# Altium footprint library PcbLib1.PcbLib: 15 footprints
Each footprint in its own frame and in the unit in brackets; x right, y up, seen from the top. Pads: shape width x height; smd on the part's side, far side on the other; paste and mask are expansions set on the pad; w line width, h text height; cw(c..) or ccw(c..) is an arc to the next point about the centre after c.
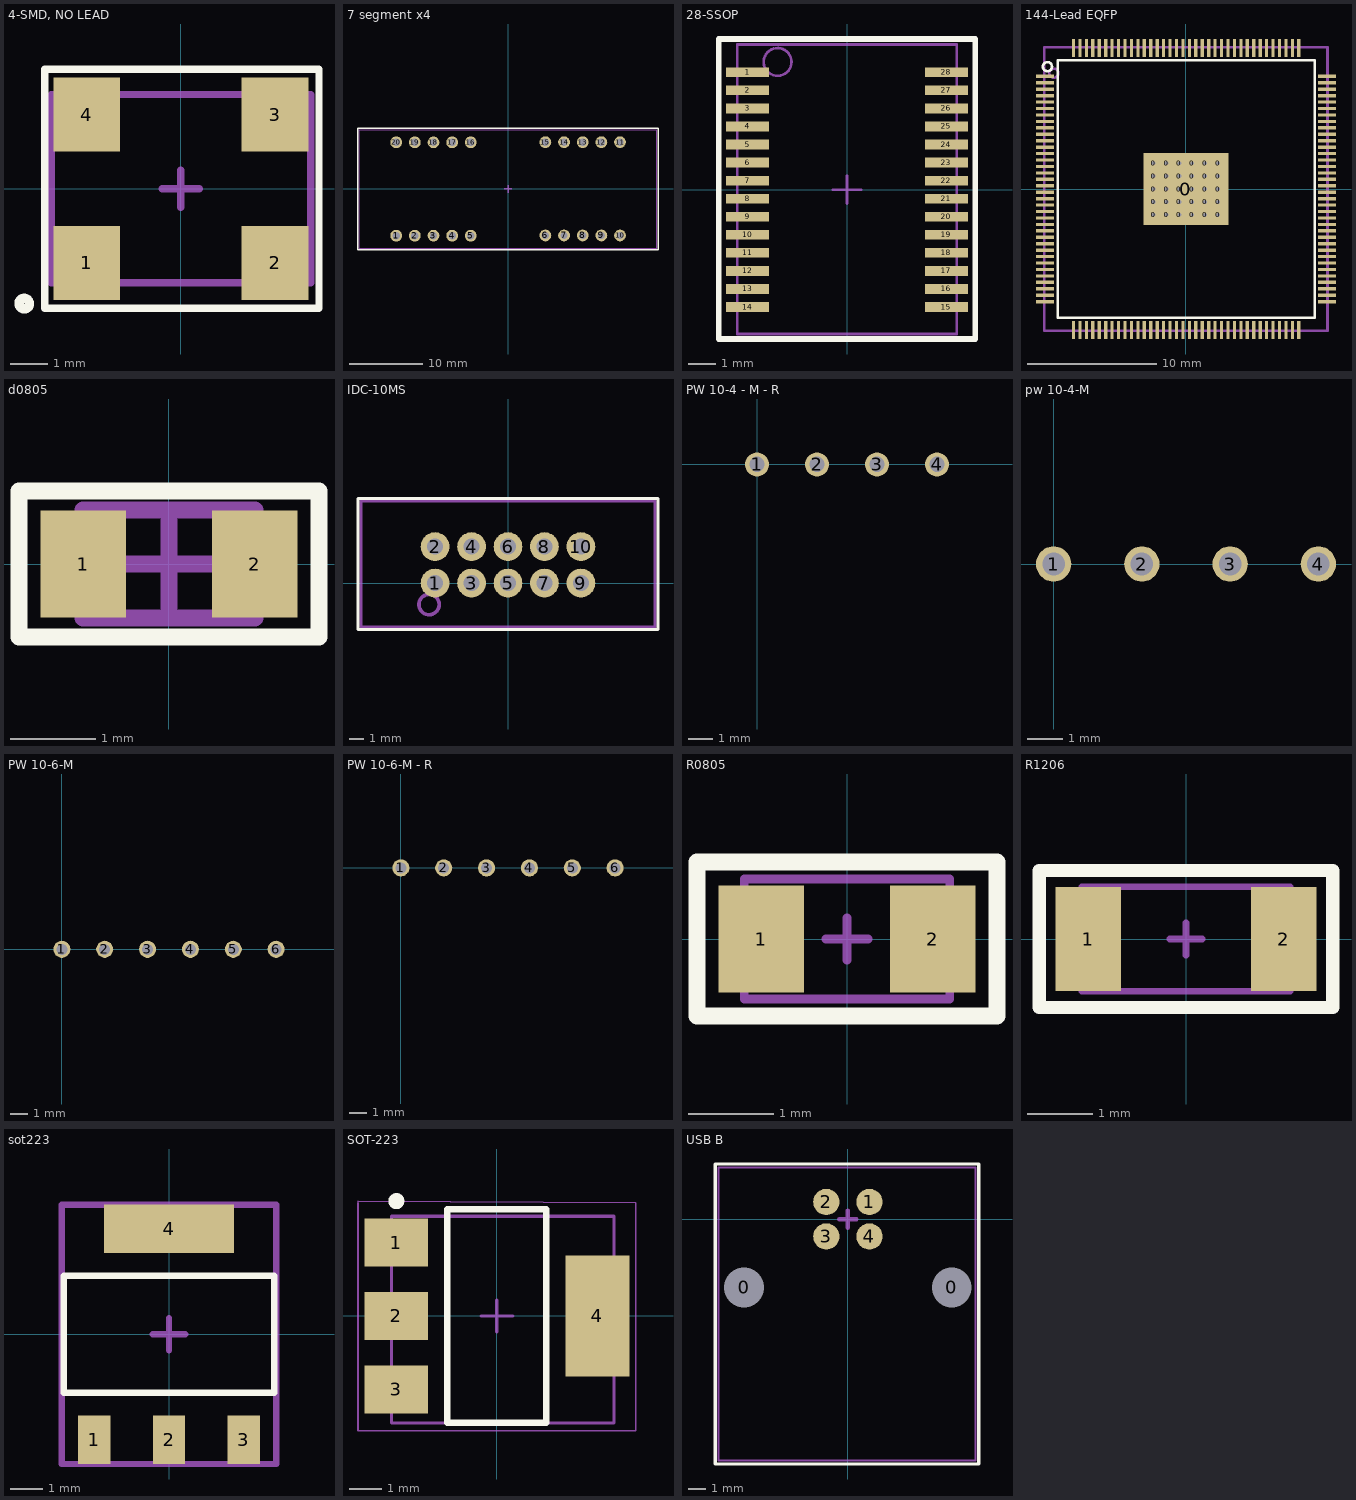
[diagram p0: the footprints below, top view; thin cyan lines are the x and y axes]

## 4-SMD, NO LEAD [mm]
pads (4):
  rect 1.8x2 smd: 1(-2.54,-2) 2(2.54,-2) 3(2.54,2) 4(-2.54,2)
Top Overlay:
  lines w0.2: -3.675,-3.225 -3.675,3.225 3.725,3.225 3.725,-3.225 -3.675,-3.225
  lines w0.254: -4.099,-3.037 ccw(c-4.225,-3.1) -4.089,-3.061
Border:
  lines w0.2: -0.5,0 0.5,0 ; 0,-0.5 0,0.5
Mechanical 29:
  lines w0.2: -3.5,-2.54 -3.5,2.54 3.5,2.54 3.5,-2.54 -3.5,-2.54
  lines w0.254: -2.331,-1.732 ccw(c-2.65,-1.8) -2.327,-1.754
  text ".designator" at -2.54,-0.762 h3
3D body "User Library-ASV_series _ABRACON.STEP": height 1.8, standoff 0, extent -3.5,-2.54 3.5,2.54

## 7 segment x4 [mm]
pads (20):
  round 1.6 hole 1: 1(-15.24,-6.362) 2(-12.7,-6.362) 3(-10.16,-6.362) 4(-7.62,-6.362) 5(-5.08,-6.362) 6(5.08,-6.337) 7(7.62,-6.337) 8(10.16,-6.337) 9(12.7,-6.337) 10(15.24,-6.337) 11(15.24,6.363) 12(12.7,6.363) 13(10.16,6.363) 14(7.62,6.363) 15(5.08,6.363) 16(-5.08,6.338) 17(-7.62,6.338) 18(-10.16,6.338) 19(-12.7,6.338) 20(-15.24,6.338)
Top Overlay:
  lines w0.2: -20.44,-8.262 -20.44,8.237 20.41,8.238 20.41,-8.262 -20.44,-8.262
Top Assy:
  lines w0.1: -20.24,-8.062 20.21,-8.062 20.21,8.037 -20.24,8.037 -20.24,-8.062
Border:
  lines w0.2: -0.5,0 0.5,0 ; 0,-0.5 0,0.5
3D body "end-el-san Co Ltd-King Bright CA04-41.STEP": height 8, standoff -3, extent -20.2,-8.013 20.2,7.987

## 28-SSOP [mm]
pads (28):
  rect 1.55x0.35 smd: 1(-3.575,4.225) 2(-3.575,3.575) 3(-3.575,2.925) 4(-3.575,2.275) 5(-3.575,1.625) 6(-3.575,0.975) 7(-3.575,0.325) 8(-3.575,-0.325) 9(-3.575,-0.975) 10(-3.575,-1.625) 11(-3.575,-2.275) 12(-3.575,-2.925) 13(-3.575,-3.575) 14(-3.575,-4.225) 15(3.575,-4.225) 16(3.575,-3.575) 17(3.575,-2.925) 18(3.575,-2.275) 19(3.575,-1.625) 20(3.575,-0.975) 21(3.575,-0.325) 22(3.575,0.325) 23(3.575,0.975) 24(3.575,1.625) 25(3.575,2.275) 26(3.575,2.925) 27(3.575,3.575) 28(3.575,4.225)
Top Overlay:
  lines w0.2: -4.625,-5.375 -4.625,5.425 4.625,5.425 4.625,-5.375 -4.625,-5.375
Top Assy:
  circle w0.1: c-2.5,4.6 r0.5
  lines w0.1: -3.95,-5.2 -3.95,5.225 3.95,5.225 3.95,-5.2 -3.95,-5.2
Border:
  lines w0.1: -0.5,0 0.5,0 ; 0,-0.5 0,0.5 ; -4.625,-5.375 -4.625,5.425 4.625,5.425 4.625,-5.375 -4.625,-5.375
3D body "User Library-SSOP-28-FT232RL.STEP": height 2.16, standoff 0, extent -3.878,-5.165 3.878,5.165

## 144-Lead EQFP [mm]
pads (175):
  round 0.7 hole 0.3: 0(-2.5,-2) 0(-2.5,-1) 0(-2.5,0) 0(-2.5,1) 0(-2.5,2) 0(-1.5,-2) 0(-1.5,-1) 0(-1.5,0) 0(-1.5,1) 0(-1.5,2) 0(-0.5,-2) 0(-0.5,-1) 0(-0.5,0) 0(-0.5,1) 0(-0.5,2) 0(0.5,-2) 0(0.5,-1) 0(0.5,0) 0(0.5,1) 0(0.5,2) 0(1.5,-2) 0(1.5,-1) 0(1.5,0) 0(1.5,1) 0(1.5,2) 0(2.5,-2) 0(2.5,-1) 0(2.5,0) 0(2.5,1) 0(2.5,2)
  rect 6.6x5.6 smd: 0(0,0)
  rect 1.4x0.25 smd: 1(-10.925,8.75) 2(-10.925,8.25) 3(-10.925,7.75) 4(-10.925,7.25) 5(-10.925,6.75) 6(-10.925,6.25) 7(-10.925,5.75) 8(-10.925,5.25) 9(-10.925,4.75) 10(-10.925,4.25) 11(-10.925,3.75) 12(-10.925,3.25) 13(-10.925,2.75) 14(-10.925,2.25) 15(-10.925,1.75) 16(-10.925,1.25) 17(-10.925,0.75) 18(-10.925,0.25) 19(-10.925,-0.25) 20(-10.925,-0.75) 21(-10.925,-1.25) 22(-10.925,-1.75) 23(-10.925,-2.25) 24(-10.925,-2.75) 25(-10.925,-3.25) 26(-10.925,-3.75) 27(-10.925,-4.25) 28(-10.925,-4.75) 29(-10.925,-5.25) 30(-10.925,-5.75) 31(-10.925,-6.25) 32(-10.925,-6.75) 33(-10.925,-7.25) 34(-10.925,-7.75) 35(-10.925,-8.25) 36(-10.925,-8.75) 73(10.95,-8.75) 74(10.95,-8.25) 75(10.95,-7.75) 76(10.95,-7.25) 77(10.95,-6.75) 78(10.95,-6.25) 79(10.95,-5.75) 80(10.95,-5.25) 81(10.95,-4.75) 82(10.95,-4.25) 83(10.95,-3.75) 84(10.95,-3.25) 85(10.95,-2.75) 86(10.95,-2.25) 87(10.95,-1.75) 88(10.95,-1.25) 89(10.95,-0.75) 90(10.95,-0.25) 91(10.95,0.25) 92(10.95,0.75) 93(10.95,1.25) 94(10.95,1.75) 95(10.95,2.25) 96(10.95,2.75) 97(10.95,3.25) 98(10.95,3.75) 99(10.95,4.25) 100(10.95,4.75) 101(10.95,5.25) 102(10.95,5.75) 103(10.95,6.25) 104(10.95,6.75) 105(10.95,7.25) 106(10.95,7.75) 107(10.95,8.25) 108(10.95,8.75)
  rect 0.25x1.4 smd: 37(-8.725,-10.95) 38(-8.225,-10.95) 39(-7.725,-10.95) 40(-7.225,-10.95) 41(-6.725,-10.95) 42(-6.225,-10.95) 43(-5.725,-10.95) 44(-5.225,-10.95) 45(-4.725,-10.95) 46(-4.225,-10.95) 47(-3.725,-10.95) 48(-3.225,-10.95) 49(-2.725,-10.95) 50(-2.225,-10.95) 51(-1.725,-10.95) 52(-1.225,-10.95) 53(-0.725,-10.95) 54(-0.225,-10.95) 55(0.275,-10.95) 56(0.775,-10.95) 57(1.275,-10.95) 58(1.775,-10.95) 59(2.275,-10.95) 60(2.775,-10.95) 61(3.275,-10.95) 62(3.775,-10.95) 63(4.275,-10.95) 64(4.775,-10.95) 65(5.275,-10.95) 66(5.775,-10.95) 67(6.275,-10.95) 68(6.775,-10.95) 69(7.275,-10.95) 70(7.775,-10.95) 71(8.275,-10.95) 72(8.775,-10.95) 109(8.775,10.95) 110(8.275,10.95) 111(7.775,10.95) 112(7.275,10.95) 113(6.775,10.95) 114(6.275,10.95) 115(5.775,10.95) 116(5.275,10.95) 117(4.775,10.95) 118(4.275,10.95) 119(3.775,10.95) 120(3.275,10.95) 121(2.775,10.95) 122(2.275,10.95) 123(1.775,10.95) 124(1.275,10.95) 125(0.775,10.95) 126(0.275,10.95) 127(-0.225,10.95) 128(-0.725,10.95) 129(-1.225,10.95) 130(-1.725,10.95) 131(-2.225,10.95) 132(-2.725,10.95) 133(-3.225,10.95) 134(-3.725,10.95) 135(-4.225,10.95) 136(-4.725,10.95) 137(-5.225,10.95) 138(-5.725,10.95) 139(-6.225,10.95) 140(-6.725,10.95) 141(-7.225,10.95) 142(-7.725,10.95) 143(-8.225,10.95) 144(-8.725,10.95)
Top Overlay:
  circle w0.2: c-10.75,9.5 r0.354
  lines w0.2: -9.95,-10 10,-10 10,10 -9.95,10 -9.95,-10
Border:
  lines w0.2: -0.5,0 0.5,0 ; 0,-0.5 0,0.5
Mechanical 29:
  circle w0.2: c-10.25,9 r0.354
  lines w0.2: -11,-11 -11,11 11,11 11,-11 -11,-11
  text ".designator" at -8,-1.5 h5
3D body "EP4CE22E22C7N.stp": height 1.65, standoff 0, extent -10.975,-11 11.025,11

## d0805 [mm]
pads (2):
  rect 1x1.25 smd: 1(-1,0) 2(1,0)
Top Overlay:
  lines w0.2: -1.75,-0.85 1.75,-0.85 1.75,0.85 -1.75,0.85 -1.75,-0.85
Border:
  lines w0.2: -0.5,0 0.5,0 ; 0,-0.5 0,0.5
Mechanical 29:
  lines w0.2: -1,-0.63 -1,0.63 1,0.63 1,-0.63 -1,-0.63
  text ".designator" at -0.8,-0.5 h1
3D body "User Library-D0805.step": height 0.76, standoff 0, extent -1.15,-0.675 1.15,0.675

## IDC-10MS [mm]
pads (10):
  round 2 hole 1.1: 1(-5.08,0) 2(-5.08,2.54) 3(-2.54,0) 4(-2.54,2.54) 5(0,0) 6(0,2.54) 7(2.54,0) 8(2.54,2.54) 9(5.08,0) 10(5.08,2.54)
Top Overlay:
  lines w0.2: -10.45,-3.25 -10.45,5.9 10.45,5.9 10.45,-3.25 -10.45,-3.25
Mechanical 29:
  circle w0.254: c-5.5,-1.5 r0.707
  lines w0.2: -10.25,-3.05 10.25,-3.05 10.25,5.7 -10.25,5.7 -10.25,-3.05
  text ".designator" at -8.65,0.05 h5
3D body "User Library-BoxHeader_2R5W_254P_00D.step": height 9.1, standoff -3.1, extent -10.325,-3.125 10.275,5.675

## PW 10-4 - M - R [mm]
pads (4):
  round 1 hole 0.64: 1(0,0) 2(2.5,0) 3(5,0) 4(7.5,0)
Bottom Overlay:
  lines w0.1: -2.5,-9.9 10,-9.9 10,1.6 -2.5,1.6 -2.5,-9.9
3D body: height 5.7, standoff 0, extent 1.5,0 1.5,0

## pw 10-4-M [mm]
pads (4):
  round 1 hole 0.64: 1(0,0) 2(2.5,0) 3(5,0) 4(7.5,0)
3D body: height 5.7, standoff 0, extent 1.5,0 1.5,0
3D body: height 5.7, standoff 0, extent -12.5,-0.5 -12.5,-0.5
3D body "JST S4B-PH-SM4-TB.step": height 0.6, standoff -8.01, extent -2.45,-5.6 9.45,0

## PW 10-6-M [mm]
pads (6):
  round 1 hole 0.64: 1(0,0) 2(2.5,0) 3(5,0) 4(7.5,0) 5(10,0) 6(12.5,0)
Bottom Overlay:
  lines w0.1: -2.5,-2.3 15,-2.3 15,3.5 -2.5,3.5 -2.5,-2.3
3D body: height 5.7, standoff 0, extent 1.5,0 1.5,0
3D body "PW-10-6-M.STEP": height 8, standoff -2.3, extent -2.5,-2.25 15,3.45

## PW 10-6-M - R [mm]
pads (6):
  round 1 hole 0.64: 1(0,0) 2(2.5,0) 3(5,0) 4(7.5,0) 5(10,0) 6(12.5,0)
Bottom Overlay:
  lines w0.1: -2.5,-9.9 15,-9.9 15,1.6 -2.5,1.6 -2.5,-9.9
3D body: height 5.7, standoff 0, extent 1.5,0 1.5,0

## R0805 [mm]
pads (2):
  rect 1x1.25 smd mask+0.1: 1(-1,0)
  rect 1x1.25 smd: 2(1,0)
Top Overlay:
  lines w0.2: -1.75,-0.9 -1.75,0.9 1.75,0.9 1.75,-0.9 -1.75,-0.9
Top Assy:
  lines w0.1: -1.2,-0.7 1.2,-0.7 1.2,0.7 -1.2,0.7 -1.2,-0.7
Border:
  lines w0.1: -0.25,0 0.25,0 ; 0,-0.25 0,0.25 ; -1.75,-0.9 -1.75,0.9 1.75,0.9 1.75,-0.9 -1.75,-0.9
3D body "User Library-RES_2013-0805.STEP": height 0.76, standoff 0, extent -1.15,-0.675 1.15,0.675

## R1206 [mm]
pads (2):
  rect 1x1.6 smd: 1(-1.5,0) 2(1.5,0)
Top Overlay:
  lines w0.2: -2.25,-1.05 2.25,-1.05 2.25,1.05 -2.25,1.05 -2.25,-1.05
Top Assy:
  lines w0.1: -1.6,-0.8 1.6,-0.8 1.6,0.8 -1.6,0.8 -1.6,-0.8
Border:
  lines w0.1: -0.25,0 0.25,0 ; 0,-0.25 0,0.25 ; 2.2,1.05 2.25,1.05 ; 2.25,1.05 -2.25,1.05 -2.25,-1.05 2.25,-1.05 2.25,1.05
3D body "User Library-1206 SMD Resistor.STEP": height 1, standoff 0, extent -1.6,-0.8 1.6,0.8

## sot223 [mm]
pads (4):
  rect 1x1.5 smd: 1(-2.3,-3.25) 2(0,-3.25) 3(2.3,-3.25)
  rect 4x1.5 smd: 4(0,3.25)
Top Overlay:
  lines w0.2: -3.25,-1.8 3.25,-1.8 3.25,0.75 3.25,1.8 -3.25,1.8 -3.25,0.75 -3.25,-1.8
Border:
  lines w0.2: -0.5,0 0.5,0 ; 0,-0.5 0,0.5
Mechanical 29:
  lines w0.2: -3.3,-4 3.3,-4 3.3,4 -3.3,4 -3.3,-4
  text ".designator" at -2.9,-0.6 h2
3D body "User Library-SOT223-3.step": height 1.7, standoff 0, extent -3.25,-3.5 3.25,3.5

## SOT-223 [mm]
height 1.8
pads (4):
  rect 2x1.5 smd: 1(-3.15,2.3) 2(-3.15,0) 3(-3.15,-2.3)
  rect 2x3.8 smd: 4(3.15,0)
Top Overlay:
  circle w0.25: c-3.15,3.6 r0.125
  lines w0.2: -1.55,-3.35 -1.55,3.35 1.55,3.35 1.55,-3.35 -1.55,-3.35
Top Assy:
  lines w0.1: -3.3,-3.35 3.675,-3.35 3.675,3.125 -3.3,3.125 -3.3,-3.35
Border:
  lines w0.05: -4.35,3.55 -4.35,-3.6 4.35,-3.6 4.35,3.55 -4.35,3.6
  lines w0.1: -0.5,0 0.5,0 ; 0,-0.5 0,0.5
3D body "ALSRobot-SOT-223.step": height 1.64, standoff -0.01, extent -3.3,-3.35 3.7,3.15

## USB B [mm]
pads (6):
  round 1.524 hole 2.3: 0(-6.02,-3.96) 0(6.02,-3.96)
  round 1.524 smd: 1(1.25,1) 3(-1.25,-1) 4(1.25,-1)
  round 1.524 smd mask+0.1: 2(-1.25,1)
Top Overlay:
  lines w0.2: -7.7,-14.2 7.6,-14.2 7.6,3.2 -7.7,3.2 -7.7,-14.2
Top Assy:
  lines w0.1: -7.5,-14 7.4,-14 7.4,3 -7.5,3 -7.5,-14
Border:
  lines w0.1: -7.7,-14.2 -7.7,3.2 7.6,3.2 7.6,-14.2 -7.7,-14.2
  lines w0.254: -0.5,0 0.5,0 ; 0,-0.5 0,0.5
3D body "5879.stp": height 11, standoff -4.22, extent -7.43,-13.99 7.43,3.01